# Altium footprint library KAA0100IS_MainPad.PcbLib: 1 footprints
Each footprint in its own frame and in the unit in brackets; x right, y up, seen from the top. Pads: shape width x height; smd on the part's side, far side on the other; paste and mask are expansions set on the pad; w line width, h text height; cw(c..) or ccw(c..) is an arc to the next point about the centre after c.
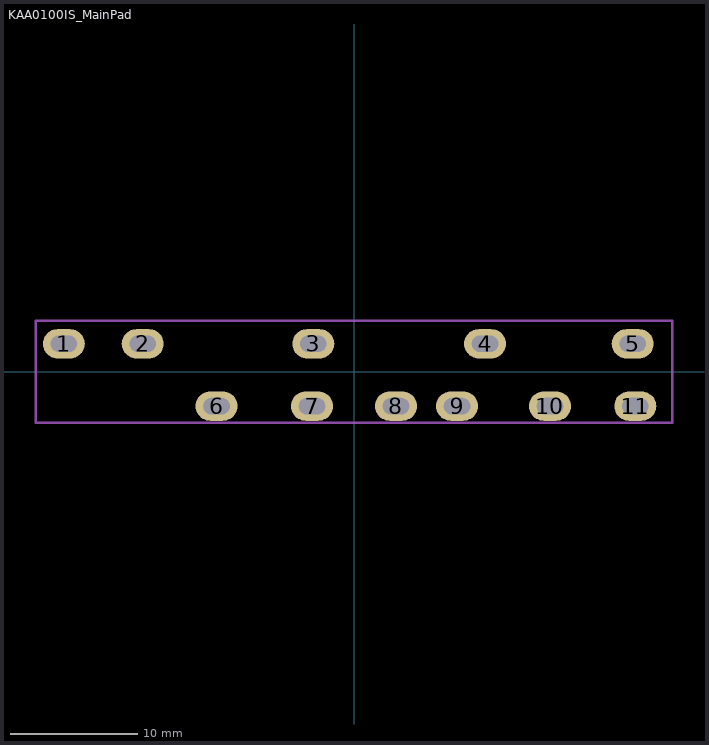
[diagram p0: the footprint, top view; thin cyan lines are the x and y axes]

## KAA0100IS_MainPad [mm]
pads (11):
  oval 3.3x2.3 hole 1.28 slot 2.08 at 0 deg mask-0.15: 1(-22.8,2.2) 2(-16.6,2.2) 3(-3.2,2.2) 4(10.3,2.2) 5(21.9,2.2) 6(-10.8,-2.7) 7(-3.3,-2.7) 8(3.3,-2.7) 9(8.1,-2.7) 10(15.4,-2.7) 11(22.1,-2.7)
Mechanical 1:
  lines w0.2: -25,-4 25,-4 25,4 -25,4 -25,-4
  lines w1: -23.3,2.2 -22.3,2.2 ; -17.1,2.2 -16.1,2.2 ; -11.3,-2.7 -10.3,-2.7 ; -3.8,-2.7 -2.8,-2.7 ; -3.7,2.2 -2.7,2.2 ; 2.8,-2.7 3.8,-2.7 ; 7.6,-2.7 8.6,-2.7 ; 9.8,2.2 10.8,2.2 ; 14.9,-2.7 15.9,-2.7 ; 21.4,2.2 22.4,2.2 ; 21.6,-2.7 22.6,-2.7